# Altium footprint library Fasteners & Fixings.PcbLib: 118 footprints (part 2 of 8)
Each footprint in its own frame and in the unit in brackets; x right, y up, seen from the top. Pads: shape width x height; smd on the part's side, far side on the other; paste and mask are expansions set on the pad; w line width, h text height; cw(c..) or ccw(c..) is an arc to the next point about the centre after c.
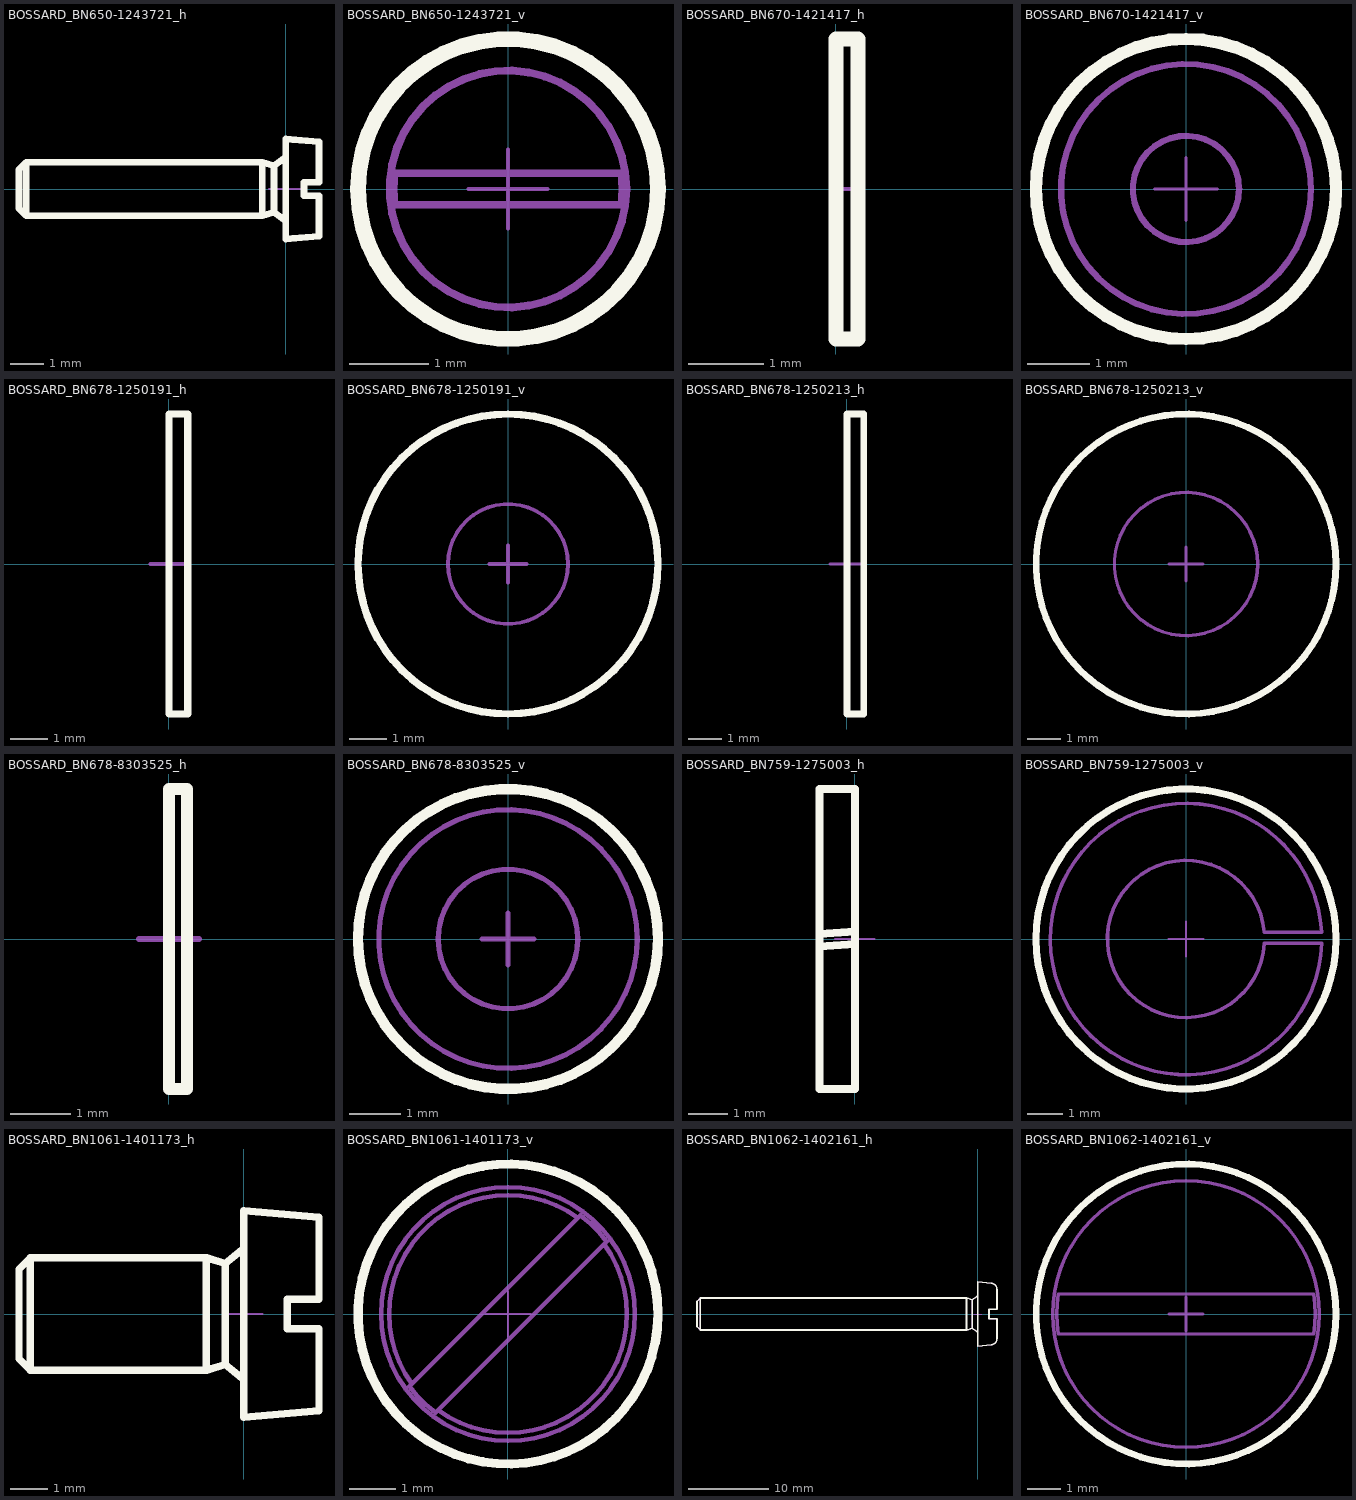
[diagram p1: the footprints below, top view; thin cyan lines are the x and y axes]

## BOSSARD_BN650-1243721_h [mm] "M1.6 L=8mm Slotted Cheese Head Machine Screw, DIN 84 A, Stainless Steel A2"
height 3
Top Overlay:
  lines w0.2: 0,-1 ccw(c-0.1,-1) -0.041,-0.919 -0.35,-0.693 ; 0,1 cw(c-0.1,1) -0.041,0.919 -0.35,0.693 ; -7.786,-0.8 -0.7,-0.8 ; -7.786,-0.8 -8,-0.586 -8,0.586 -7.786,0.8 ; -7.786,-0.8 -7.786,0.8 ; -7.786,0.8 -0.7,0.8 ; -0.7,-0.8 -0.35,-0.693 ; -0.7,-0.8 -0.7,0.8 ; -0.7,0.8 -0.35,0.693 ; -0.35,-0.693 -0.35,0.693 ; 0,-1.5 1,-1.413 1,-0.2 0.55,-0.2 0.55,0.2 1,0.2 1,1.413 0,1.5 0,-1.5
Mechanical 8:
  lines w0.05: -0.5,0 0,0 ; 0,-0.5 0,0 ; 0,0.5 0,0 ; 0.5,0 0,0
Mechanical 14:
  lines w0.1: 0,-1 ccw(c-0.1,-1) -0.041,-0.919 -0.35,-0.693 ; 0,1 cw(c-0.1,1) -0.041,0.919 -0.35,0.693 ; -7.786,-0.8 -0.7,-0.8 ; -7.786,-0.8 -8,-0.586 -8,0.586 -7.786,0.8 ; -7.786,-0.8 -7.786,0.8 ; -7.786,0.8 -0.7,0.8 ; -0.7,-0.8 -0.35,-0.693 ; -0.7,-0.8 -0.7,0.8 ; -0.7,0.8 -0.35,0.693 ; -0.35,-0.693 -0.35,0.693 ; 0,-1.5 1,-1.413 1,-0.2 0.55,-0.2 0.55,0.2 1,0.2 1,1.413 0,1.5 0,-1.5
3D body "BOSSARD_BN650-1243721_h.stp": height 1.5, standoff -1.5, extent -8,-1.5 1,1.5

## BOSSARD_BN650-1243721_v [mm] "M1.6 L=8mm Slotted Cheese Head Machine Screw, DIN 84 A, Stainless Steel A2"
height 1
Top Overlay:
  circle w0.2: c0,0 r1.9
Mechanical 8:
  lines w0.05: -0.5,0 0,0 ; 0,-0.5 0,0 ; 0,0.5 0,0 ; 0.5,0 0,0
Mechanical 14:
  circle w0.1: c0,0 r1.5
  lines w0.1: -1.438,-0.2 cw(c0,0) -1.438,0.2 1.438,0.2 cw(c0,0) 1.438,-0.2 -1.438,-0.2
3D body "BOSSARD_BN650-1243721_v.stp": height 1, standoff -8, extent -1.5,-1.5 1.5,1.5

## BOSSARD_BN670-1421417_h [mm] "Flat Washer Without Chamfer for M1.6 Screw, DIN 125 A, Stainless Steel A2 140 HV"
height 4
Top Overlay:
  lines w0.2: 0,-2 0,2 0.3,2 0.3,-2 0,-2
Mechanical 8:
  lines w0.05: 0,-0.5 0,0 ; 0,0.5 0,0 ; 0.3,0 0,0
Mechanical 14:
  lines w0.1: 0,-2 0,2 0.3,2 0.3,-2 0,-2
3D body "BOSSARD_BN670-1421417_h.stp": height 2, standoff -2, extent 0,-2 0.3,2

## BOSSARD_BN670-1421417_v [mm] "Flat Washer Without Chamfer for M1.6 Screw, DIN 125 A, Stainless Steel A2 140 HV"
height 0.3
Top Overlay:
  circle w0.2: c0,0 r2.4
Mechanical 8:
  lines w0.05: -0.5,0 0,0 ; 0,-0.5 0,0 ; 0,0.5 0,0 ; 0.5,0 0,0
Mechanical 14:
  circle w0.1: c0,0 r0.85
  circle w0.1: c0,0 r2
3D body "BOSSARD_BN670-1421417_v.stp": height 0.3, standoff 0, extent -2,-2 2,2

## BOSSARD_BN678-1250191_h [mm] "Waved Spring Washer for M3 Screw - Stainless Steel - A2 / 1.4310"
height 8
Top Overlay:
  lines w0.2: 0,-4 0.5,-4 0.5,4 0,4 0,-4
Mechanical 8:
  lines w0.1: -0.5,0 0,0 ; 0,-0.5 0,0 ; 0,0.5 0,0 ; 0.5,0 0,0
Mechanical 14:
  lines w0.1: 0,-4 0.5,-4 0.5,4 0,4 0,-4
3D body "BOSSARD_BN679-1250191_h.stp": height 4, standoff -4, extent 0,-4 0.5,4

## BOSSARD_BN678-1250191_v [mm] "Waved Spring Washer for M3 Screw - Stainless Steel - A2 / 1.4310"
height 0.5
Top Overlay:
  circle w0.2: c0,0 r4
Mechanical 8:
  lines w0.1: -0.5,0 0,0 ; 0,-0.5 0,0 ; 0,0.5 0,0 ; 0.5,0 0,0
Mechanical 14:
  circle w0.1: c0,0 r4
  circle w0.1: c0,0 r1.6
3D body "BOSSARD_BN679-1250191_v.stp": height 0.5, standoff 0, extent -4,-4 4,4

## BOSSARD_BN678-1250213_h [mm] "Waved Spring Washer for M4 Screw - Stainless Steel - A2 / 1.4310"
height 9
Top Overlay:
  lines w0.2: 0,-4.5 0.5,-4.5 0.5,4.5 0,4.5 0,-4.5
Mechanical 8:
  lines w0.1: -0.5,0 0,0 ; 0,-0.5 0,0 ; 0,0.5 0,0 ; 0.5,0 0,0
Mechanical 14:
  lines w0.1: 0,-4.5 0.5,-4.5 0.5,4.5 0,4.5 0,-4.5
3D body "BOSSARD_BN678-1250213_h.stp": height 4.5, standoff -4.5, extent 0,-4.5 0.5,4.5

## BOSSARD_BN678-1250213_v [mm] "Waved Spring Washer for M4 Screw - Stainless Steel - A2 / 1.4310"
height 0.5
Top Overlay:
  circle w0.2: c0,0 r4.5
Mechanical 8:
  lines w0.1: -0.5,0 0,0 ; 0,-0.5 0,0 ; 0,0.5 0,0 ; 0.5,0 0,0
Mechanical 14:
  circle w0.1: c0,0 r2.15
  circle w0.1: c0,0 r4.5
3D body "BOSSARD_BN678-1250213_v.stp": height 0.5, standoff 0, extent -4.5,-4.5 4.5,4.5

## BOSSARD_BN678-8303525_h [mm] "Waved Spring Washer for M2.5 Screw - Stainless Steel - A2 / 1.4310"
height 5
Top Overlay:
  lines w0.2: 0,-2.5 0.3,-2.5 0.3,2.5 0,2.5 0,-2.5
Mechanical 8:
  lines w0.1: -0.5,0 0,0 ; 0,-0.5 0,0 ; 0,0.5 0,0 ; 0.5,0 0,0
Mechanical 14:
  lines w0.1: 0,-2.5 0.3,-2.5 0.3,2.5 0,2.5 0,-2.5
3D body "BOSSARD_BN678-8303525_h.stp": height 2.5, standoff -2.5, extent 0,-2.5 0.3,2.5

## BOSSARD_BN678-8303525_v [mm] "Waved Spring Washer for M2.5 Screw - Stainless Steel - A2 / 1.4310"
height 0.3
Top Overlay:
  circle w0.2: c0,0 r2.9
Mechanical 8:
  lines w0.1: -0.5,0 0,0 ; 0,-0.5 0,0 ; 0,0.5 0,0 ; 0.5,0 0,0
Mechanical 14:
  circle w0.1: c0,0 r2.5
  circle w0.1: c0,0 r1.35
3D body "BOSSARD_BN678-8303525_v.stp": height 0.3, standoff 0, extent -2.5,-2.5 2.5,2.5

## BOSSARD_BN759-1275003_h [mm] "Split Spring Lock Washer With Bent End for M4 Screw, Spring Steel Black"
height 7.6
Top Overlay:
  lines w0.2: -0.9,-0.192 0,-0.123 ; -0.9,0.123 0,0.192 ; -0.9,-3.8 -0.9,3.8 0,3.8 0,-3.8 -0.9,-3.8
Mechanical 8:
  lines w0.05: -0.5,0 0,0 ; 0,-0.5 0,0 ; 0,0.5 0,0 ; 0.5,0 0,0
Mechanical 14:
  lines w0.1: -0.9,-0.192 0,-0.123 ; -0.9,0.123 0,0.192 ; -0.9,-3.8 -0.9,3.8 0,3.8 0,-3.8 -0.9,-3.8
3D body "BOSSARD_BN759-1275003_h.stp": height 3.8, standoff -3.8, extent -0.9,-3.8 0,3.8

## BOSSARD_BN759-1275003_v [mm] "Split Spring Lock Washer With Bent End for M4 Screw, Spring Steel Black"
height 0.9
Top Overlay:
  circle w0.2: c0,0 r4.2
Mechanical 8:
  lines w0.05: -0.5,0 0,0 ; 0,-0.5 0,0 ; 0,0.5 0,0 ; 0.5,0 0,0
Mechanical 14:
  lines w0.1: 2.192,0.192 ccw(c0,0) 2.197,-0.123 3.798,-0.123 cw(c0,0) 3.795,0.192 2.192,0.192
3D body "BOSSARD_BN759-1275003_v.stp": height 0.9, standoff 0, extent -3.8,-3.8 3.798,3.8

## BOSSARD_BN1061-1401173_h [mm] "M3 L=6mm Slotted Pan Head Machine Screw - Polyamide PA 6.6"
height 5.5
Top Overlay:
  lines w0.2: 0,-1.8 ccw(c-0.1,-1.8) -0.037,-1.722 -0.5,-1.347 ; 0,1.8 cw(c-0.1,1.8) -0.037,1.722 -0.5,1.347 ; -5.693,-1.5 -6,-1.194 -6,1.194 -5.693,1.5 ; -5.693,-1.5 -5.693,1.5 ; -5.693,-1.5 -1,-1.5 ; -5.693,1.5 -1,1.5 ; -1,-1.5 -1,1.5 ; -1,-1.5 -0.5,-1.347 ; -1,1.5 -0.5,1.347 ; -0.5,-1.347 -0.5,1.347 ; 0,-2.75 0,2.75 2,2.575 2,0.4 1.15,0.4 1.15,-0.4 2,-0.4 2,-2.575 0,-2.75
Mechanical 8:
  lines w0.05: -0.5,0 0,0 ; 0,-0.5 0,0 ; 0,0.5 0,0 ; 0.5,0 0,0
Mechanical 14:
  lines w0.1: 0,-1.8 ccw(c-0.1,-1.8) -0.037,-1.722 -0.5,-1.347 ; 0,1.8 cw(c-0.1,1.8) -0.037,1.722 -0.5,1.347 ; -5.693,-1.5 -6,-1.194 -6,1.194 -5.693,1.5 ; -5.693,-1.5 -5.693,1.5 ; -5.693,-1.5 -1,-1.5 ; -5.693,1.5 -1,1.5 ; -1,-1.5 -1,1.5 ; -1,-1.5 -0.5,-1.347 ; -1,1.5 -0.5,1.347 ; -0.5,-1.347 -0.5,1.347 ; 0,-2.75 0,2.75 2,2.575 2,0.4 1.15,0.4 1.15,-0.4 2,-0.4 2,-2.575 0,-2.75
3D body "BOSSARD_BN1061-1401173_h.stp": height 2.75, standoff -2.75, extent -6,-2.75 2,2.75

## BOSSARD_BN1061-1401173_v [mm] "M3 L=6mm Slotted Pan Head Machine Screw - Polyamide PA 6.6"
height 2
Top Overlay:
  circle w0.2: c0,0 r3.25
Mechanical 8:
  lines w0.05: -0.5,0 0,0 ; 0,-0.5 0,0 ; 0,0.5 0,0 ; 0.5,0 0,0
Mechanical 14:
  circle w0.1: c0,0 r2.75
  lines w0.1: -2.081,-1.516 cw(c0,0) 1.516,2.082 ; -1.516,-2.082 ccw(c0,0) 2.082,1.516 ; -2.135,-1.569 ccw(c0,0) -1.569,-2.135 2.135,1.569 ccw(c0,0) 1.569,2.135 -2.135,-1.569
3D body "BOSSARD_BN1061-1401173_v.stp": height 2, standoff -6, extent -2.749,-2.749 2.749,2.749

## BOSSARD_BN1062-1402161_h [mm] "M4 L=35mm Slotted Pan Head Machine Screw - Polyamide PA 6.6"
height 8
Top Overlay:
  lines w0.2: 0,-2.35 ccw(c-0.2,-2.35) -0.091,-2.182 -0.7,-1.785 ; 0,2.35 cw(c-0.2,2.35) -0.091,2.182 -0.7,1.785 ; -34.571,-2 -35,-1.57 -35,1.57 -34.571,2 ; -34.571,-2 -1.4,-2 ; -34.571,-2 -34.571,2 ; -34.571,2 -1.4,2 ; -1.4,-2 -0.7,-1.785 ; -1.4,-2 -1.4,2 ; -1.4,2 -0.7,1.785 ; -0.7,-1.785 -0.7,1.785 ; 0,-4 1.67,-3.854 ccw(c1.6,-3.057) 2.4,-3.057 2.4,-0.6 1.4,-0.6 1.4,0.6 2.4,0.6 2.4,3.057 ccw(c1.6,3.057) 1.67,3.854 0,4 0,-4
Mechanical 8:
  lines w0.1: -0.5,0 0,0 ; 0,-0.5 0,0 ; 0,0.5 0,0 ; 0.5,0 0,0
Mechanical 14:
  lines w0.1: 0,-2.35 ccw(c-0.2,-2.35) -0.091,-2.182 -0.7,-1.785 ; 0,2.35 cw(c-0.2,2.35) -0.091,2.182 -0.7,1.785 ; -34.571,-2 -35,-1.57 -35,1.57 -34.571,2 ; -34.571,-2 -1.4,-2 ; -34.571,-2 -34.571,2 ; -34.571,2 -1.4,2 ; -1.4,-2 -0.7,-1.785 ; -1.4,-2 -1.4,2 ; -1.4,2 -0.7,1.785 ; -0.7,-1.785 -0.7,1.785 ; 0,-4 1.67,-3.854 ccw(c1.6,-3.057) 2.4,-3.057 2.4,-0.6 1.4,-0.6 1.4,0.6 2.4,0.6 2.4,3.057 ccw(c1.6,3.057) 1.67,3.854 0,4 0,-4
3D body "BOSSARD_BN1062-1402161_h.stp": height 4, standoff -4, extent -35,-4 2.4,4

## BOSSARD_BN1062-1402161_v [mm] "M4 L=35mm Slotted Pan Head Machine Screw - Polyamide PA 6.6"
height 37.4
Top Overlay:
  circle w0.2: c0,0 r4.5
Mechanical 8:
  lines w0.1: -0.5,0 0,0 ; 0,-0.5 0,0 ; 0,0.5 0,0 ; 0.5,0 0,0
Mechanical 14:
  circle w0.1: c0,0 r4
  lines w0.1: -3.831,-0.6 cw(c0,0) -3.831,0.6 3.831,0.6 cw(c0,0) 3.831,-0.6 -3.831,-0.6
3D body "BOSSARD_BN1062-1402161_v.stp": height 2.4, standoff -35, extent -4,-4 4,4